# EAGLE library part 74LCX126MTC (library Fairchild_By_element14_Batch_1)
Low Voltage Quad Buffer with 5V Tolerant Inputs and Outputs
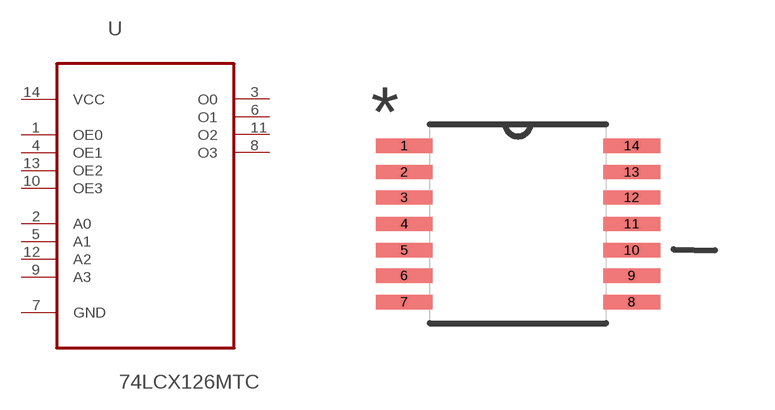
[diagram p79: symbol with the pads of SOP65P640X120-14N; footprint SOP65P640X120-14N]

Designator prefix U

## 74LCX126MTC (MPN: 74LCX126MTC; OC_FARNELL: 1467297; OC_NEWARK: 34C2202; PACKAGE: TSSOP-14; SUPPLIER: FAIRCHILD)  [SOP65P640X120-14N]
1  OE0  in
2  A0  in
3  O0  out
4  OE1  in
5  A1  in
6  O1  out
7  GND  pas
8  O3  out
9  A3  in
10  OE3  in
11  O2  out
12  A2  in
13  OE2  in
14  VCC  pwr

## Footprint SOP65P640X120-14N (pad centres in mm)
smd 1.422 x 0.356: 1 -2.845,1.956; 2 -2.845,1.295; 3 -2.845,0.66; 4 -2.845,0; 5 -2.845,-0.66; 6 -2.845,-1.295; 7 -2.845,-1.956; 8 2.845,-1.956; 9 2.845,-1.295; 10 2.845,-0.66; 11 2.845,0; 12 2.845,0.66; 13 2.845,1.295; 14 2.845,1.956